# EAGLE library part XC95144XL-10TQG100C (library Parts)
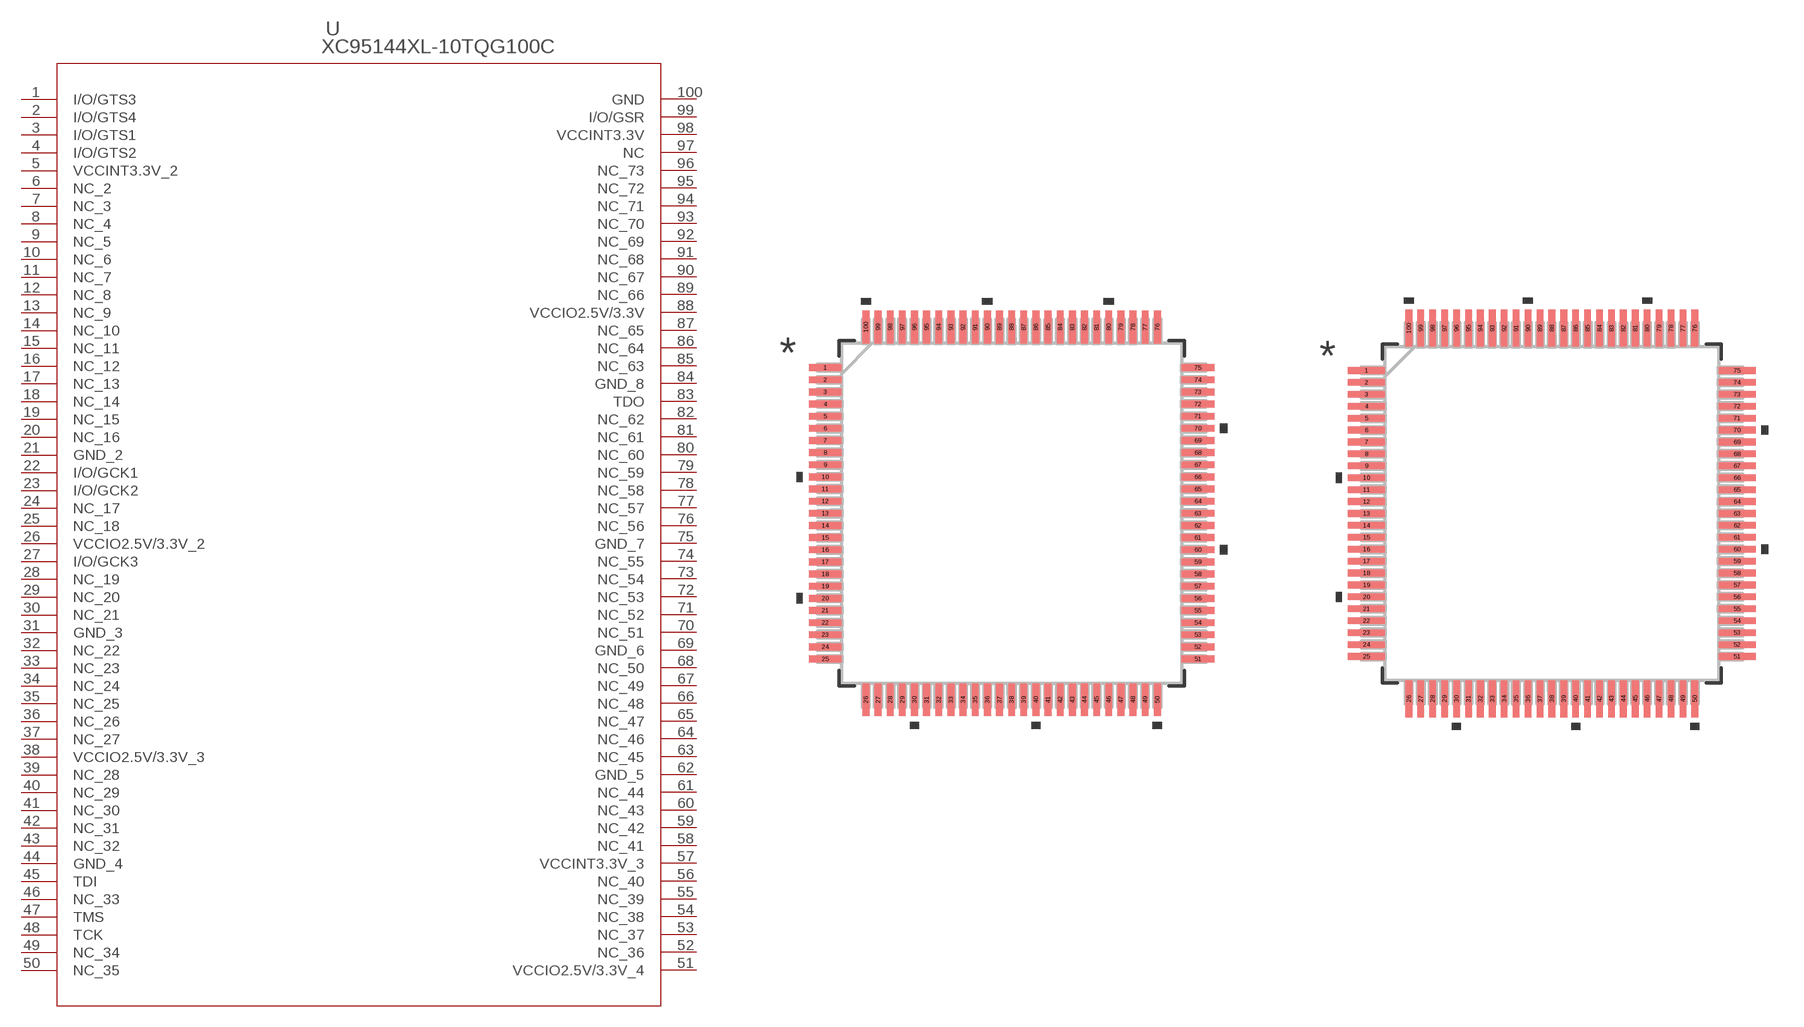
[diagram p1: symbol with the pads of 100-TQFP_XIL; footprints 100-TQFP_XIL, 100-TQFP_XIL-M]

Designator prefix U

## XC95144XL-10TQG100C (COPYRIGHT: Copyright (C) 2021 Ultra Librarian. All rights reserved.; DIGI-KEY_PART_NUMBER_1: 122-1372-ND; MANUFACTURER_PART_NUMBER: XC95144XL-10TQG100C; MFR_NAME: Xilinx Inc)  [100-TQFP_XIL]
1  I/O/GTS3
2  I/O/GTS4
3  I/O/GTS1
4  I/O/GTS2
5  VCCINT3.3V_2  pwr
6  NC_2  nc
7  NC_3  nc
8  NC_4  nc
9  NC_5  nc
10  NC_6  nc
11  NC_7  nc
12  NC_8  nc
13  NC_9  nc
14  NC_10  nc
15  NC_11  nc
16  NC_12  nc
17  NC_13  nc
18  NC_14  nc
19  NC_15  nc
20  NC_16  nc
21  GND_2  pwr
22  I/O/GCK1
23  I/O/GCK2
24  NC_17  nc
25  NC_18  nc
26  VCCIO2.5V/3.3V_2  pwr
27  I/O/GCK3
28  NC_19  nc
29  NC_20  nc
30  NC_21  nc
31  GND_3  pwr
32  NC_22  nc
33  NC_23  nc
34  NC_24  nc
35  NC_25  nc
36  NC_26  nc
37  NC_27  nc
38  VCCIO2.5V/3.3V_3  pwr
39  NC_28  nc
40  NC_29  nc
41  NC_30  nc
42  NC_31  nc
43  NC_32  nc
44  GND_4  pwr
45  TDI  pas
46  NC_33  nc
47  TMS  pas
48  TCK  pas
49  NC_34  nc
50  NC_35  nc
51  VCCIO2.5V/3.3V_4  pwr
52  NC_36  nc
53  NC_37  nc
54  NC_38  nc
55  NC_39  nc
56  NC_40  nc
57  VCCINT3.3V_3  pwr
58  NC_41  nc
59  NC_42  nc
60  NC_43  nc
61  NC_44  nc
62  GND_5  pwr
63  NC_45  nc
64  NC_46  nc
65  NC_47  nc
66  NC_48  nc
67  NC_49  nc
68  NC_50  nc
69  GND_6  pwr
70  NC_51  nc
71  NC_52  nc
72  NC_53  nc
73  NC_54  nc
74  NC_55  nc
75  GND_7  pwr
76  NC_56  nc
77  NC_57  nc
78  NC_58  nc
79  NC_59  nc
80  NC_60  nc
81  NC_61  nc
82  NC_62  nc
83  TDO  pas
84  GND_8  pwr
85  NC_63  nc
86  NC_64  nc
87  NC_65  nc
88  VCCIO2.5V/3.3V  pwr
89  NC_66  nc
90  NC_67  nc
91  NC_68  nc
92  NC_69  nc
93  NC_70  nc
94  NC_71  nc
95  NC_72  nc
96  NC_73  nc
97  NC  nc
98  VCCINT3.3V  pwr
99  I/O/GSR
100  GND  pwr

## XC95144XL-10TQG100C100-TQFP_XIL-M (COPYRIGHT: Copyright (C) 2021 Ultra Librarian. All rights reserved.; DIGI-KEY_PART_NUMBER_1: 122-1372-ND; MANUFACTURER_PART_NUMBER: XC95144XL-10TQG100C; MFR_NAME: Xilinx Inc)  [100-TQFP_XIL-M]
Pads as for 100-TQFP_XIL

## XC95144XL-10TQG100C100-TQFP_XIL-L (COPYRIGHT: Copyright (C) 2021 Ultra Librarian. All rights reserved.; DIGI-KEY_PART_NUMBER_1: 122-1372-ND; MANUFACTURER_PART_NUMBER: XC95144XL-10TQG100C; MFR_NAME: Xilinx Inc)  [100-TQFP_XIL-L]
Pads as for 100-TQFP_XIL

## Footprint 100-TQFP_XIL (pad centres in mm)
smd 1.353 x 0.279: 1 -7.674,6; 2 -7.674,5.5; 3 -7.674,5; 4 -7.674,4.5; 5 -7.674,4; 6 -7.674,3.5; 7 -7.674,3; 8 -7.674,2.5; 9 -7.674,2; 10 -7.674,1.5; 11 -7.674,1; 12 -7.674,0.5; 13 -7.674,0; 14 -7.674,-0.5; 15 -7.674,-1; 16 -7.674,-1.5; 17 -7.674,-2; 18 -7.674,-2.5; 19 -7.674,-3; 20 -7.674,-3.5; 21 -7.674,-4; 22 -7.674,-4.5; 23 -7.674,-5; 24 -7.674,-5.5; 25 -7.674,-6; 51 7.674,-6; 52 7.674,-5.5; 53 7.674,-5; 54 7.674,-4.5; 55 7.674,-4; 56 7.674,-3.5; 57 7.674,-3; 58 7.674,-2.5; 59 7.674,-2; 60 7.674,-1.5; 61 7.674,-1; 62 7.674,-0.5; 63 7.674,0; 64 7.674,0.5; 65 7.674,1; 66 7.674,1.5; 67 7.674,2; 68 7.674,2.5; 69 7.674,3; 70 7.674,3.5; 71 7.674,4; 72 7.674,4.5; 73 7.674,5; 74 7.674,5.5; 75 7.674,6
smd 0.279 x 1.353: 26 -6,-7.674; 27 -5.5,-7.674; 28 -5,-7.674; 29 -4.5,-7.674; 30 -4,-7.674; 31 -3.5,-7.674; 32 -3,-7.674; 33 -2.5,-7.674; 34 -2,-7.674; 35 -1.5,-7.674; 36 -1,-7.674; 37 -0.5,-7.674; 38 0,-7.674; 39 0.5,-7.674; 40 1,-7.674; 41 1.5,-7.674; 42 2,-7.674; 43 2.5,-7.674; 44 3,-7.674; 45 3.5,-7.674; 46 4,-7.674; 47 4.5,-7.674; 48 5,-7.674; 49 5.5,-7.674; 50 6,-7.674; 76 6,7.674; 77 5.5,7.674; 78 5,7.674; 79 4.5,7.674; 80 4,7.674; 81 3.5,7.674; 82 3,7.674; 83 2.5,7.674; 84 2,7.674; 85 1.5,7.674; 86 1,7.674; 87 0.5,7.674; 88 0,7.674; 89 -0.5,7.674; 90 -1,7.674; 91 -1.5,7.674; 92 -2,7.674; 93 -2.5,7.674; 94 -3,7.674; 95 -3.5,7.674; 96 -4,7.674; 97 -4.5,7.674; 98 -5,7.674; 99 -5.5,7.674; 100 -6,7.674

## Footprint 100-TQFP_XIL-M (pad centres in mm)
smd 1.553 x 0.279: 1 -7.774,6; 2 -7.774,5.5; 3 -7.774,5; 4 -7.774,4.5; 5 -7.774,4; 6 -7.774,3.5; 7 -7.774,3; 8 -7.774,2.5; 9 -7.774,2; 10 -7.774,1.5; 11 -7.774,1; 12 -7.774,0.5; 13 -7.774,0; 14 -7.774,-0.5; 15 -7.774,-1; 16 -7.774,-1.5; 17 -7.774,-2; 18 -7.774,-2.5; 19 -7.774,-3; 20 -7.774,-3.5; 21 -7.774,-4; 22 -7.774,-4.5; 23 -7.774,-5; 24 -7.774,-5.5; 25 -7.774,-6; 51 7.774,-6; 52 7.774,-5.5; 53 7.774,-5; 54 7.774,-4.5; 55 7.774,-4; 56 7.774,-3.5; 57 7.774,-3; 58 7.774,-2.5; 59 7.774,-2; 60 7.774,-1.5; 61 7.774,-1; 62 7.774,-0.5; 63 7.774,0; 64 7.774,0.5; 65 7.774,1; 66 7.774,1.5; 67 7.774,2; 68 7.774,2.5; 69 7.774,3; 70 7.774,3.5; 71 7.774,4; 72 7.774,4.5; 73 7.774,5; 74 7.774,5.5; 75 7.774,6
smd 0.279 x 1.553: 26 -6,-7.774; 27 -5.5,-7.774; 28 -5,-7.774; 29 -4.5,-7.774; 30 -4,-7.774; 31 -3.5,-7.774; 32 -3,-7.774; 33 -2.5,-7.774; 34 -2,-7.774; 35 -1.5,-7.774; 36 -1,-7.774; 37 -0.5,-7.774; 38 0,-7.774; 39 0.5,-7.774; 40 1,-7.774; 41 1.5,-7.774; 42 2,-7.774; 43 2.5,-7.774; 44 3,-7.774; 45 3.5,-7.774; 46 4,-7.774; 47 4.5,-7.774; 48 5,-7.774; 49 5.5,-7.774; 50 6,-7.774; 76 6,7.774; 77 5.5,7.774; 78 5,7.774; 79 4.5,7.774; 80 4,7.774; 81 3.5,7.774; 82 3,7.774; 83 2.5,7.774; 84 2,7.774; 85 1.5,7.774; 86 1,7.774; 87 0.5,7.774; 88 0,7.774; 89 -0.5,7.774; 90 -1,7.774; 91 -1.5,7.774; 92 -2,7.774; 93 -2.5,7.774; 94 -3,7.774; 95 -3.5,7.774; 96 -4,7.774; 97 -4.5,7.774; 98 -5,7.774; 99 -5.5,7.774; 100 -6,7.774

## Footprint 100-TQFP_XIL-L (pad centres in mm)
smd 1.153 x 0.229: 1 -7.574,6; 2 -7.574,5.5; 3 -7.574,5; 4 -7.574,4.5; 5 -7.574,4; 6 -7.574,3.5; 7 -7.574,3; 8 -7.574,2.5; 9 -7.574,2; 10 -7.574,1.5; 11 -7.574,1; 12 -7.574,0.5; 13 -7.574,0; 14 -7.574,-0.5; 15 -7.574,-1; 16 -7.574,-1.5; 17 -7.574,-2; 18 -7.574,-2.5; 19 -7.574,-3; 20 -7.574,-3.5; 21 -7.574,-4; 22 -7.574,-4.5; 23 -7.574,-5; 24 -7.574,-5.5; 25 -7.574,-6; 51 7.574,-6; 52 7.574,-5.5; 53 7.574,-5; 54 7.574,-4.5; 55 7.574,-4; 56 7.574,-3.5; 57 7.574,-3; 58 7.574,-2.5; 59 7.574,-2; 60 7.574,-1.5; 61 7.574,-1; 62 7.574,-0.5; 63 7.574,0; 64 7.574,0.5; 65 7.574,1; 66 7.574,1.5; 67 7.574,2; 68 7.574,2.5; 69 7.574,3; 70 7.574,3.5; 71 7.574,4; 72 7.574,4.5; 73 7.574,5; 74 7.574,5.5; 75 7.574,6
smd 0.229 x 1.153: 26 -6,-7.574; 27 -5.5,-7.574; 28 -5,-7.574; 29 -4.5,-7.574; 30 -4,-7.574; 31 -3.5,-7.574; 32 -3,-7.574; 33 -2.5,-7.574; 34 -2,-7.574; 35 -1.5,-7.574; 36 -1,-7.574; 37 -0.5,-7.574; 38 0,-7.574; 39 0.5,-7.574; 40 1,-7.574; 41 1.5,-7.574; 42 2,-7.574; 43 2.5,-7.574; 44 3,-7.574; 45 3.5,-7.574; 46 4,-7.574; 47 4.5,-7.574; 48 5,-7.574; 49 5.5,-7.574; 50 6,-7.574; 76 6,7.574; 77 5.5,7.574; 78 5,7.574; 79 4.5,7.574; 80 4,7.574; 81 3.5,7.574; 82 3,7.574; 83 2.5,7.574; 84 2,7.574; 85 1.5,7.574; 86 1,7.574; 87 0.5,7.574; 88 0,7.574; 89 -0.5,7.574; 90 -1,7.574; 91 -1.5,7.574; 92 -2,7.574; 93 -2.5,7.574; 94 -3,7.574; 95 -3.5,7.574; 96 -4,7.574; 97 -4.5,7.574; 98 -5,7.574; 99 -5.5,7.574; 100 -6,7.574